# EAGLE library part SN74CBTLV3253 (library _Bachelor-IQModulator)
Dual 4-channel DATA SELECTOR/MULTIPLEXER
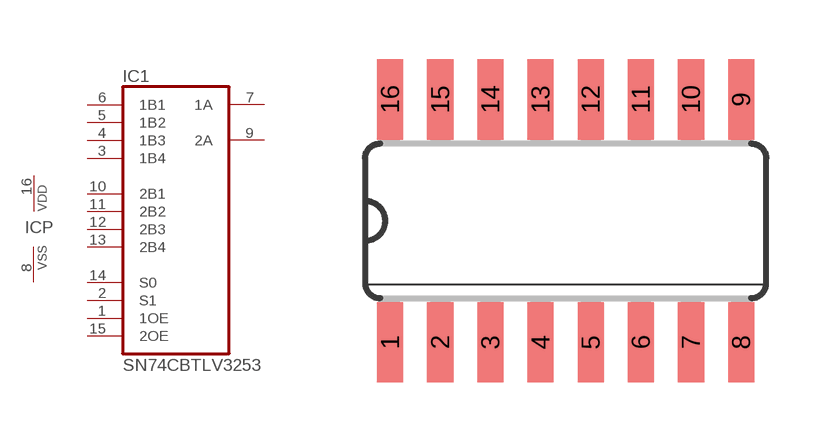
[diagram p0: symbol with the pads of SO16; footprint SO16]

Designator prefix IC; gates P=PWRN 1=743253

## SN74CBTLV3253D  [SO16]
1  1:1OE  in
2  1:S1  in
3  1:1B4  in
4  1:1B3  in
5  1:1B2  in
6  1:1B1  in
7  1:1A  hiz
8  P:VSS  pwr
9  1:2A  hiz
10  1:2B1  in
11  1:2B2  in
12  1:2B3  in
13  1:2B4  in
14  1:S0  in
15  1:2OE  in
16  P:VDD  pwr

## Footprint SO16 (pad centres in mm)
Small Outline package 150 mil
smd 0.66 x 2.032: 1 -4.445,-3.073; 2 -3.175,-3.073; 3 -1.905,-3.073; 4 -0.635,-3.073; 5 0.635,-3.073; 6 1.905,-3.073; 7 3.175,-3.073; 8 4.445,-3.073; 9 4.445,3.073; 10 3.175,3.073; 11 1.905,3.073; 12 0.635,3.073; 13 -0.635,3.073; 14 -1.905,3.073; 15 -3.175,3.073; 16 -4.445,3.073